# Altium footprint library A6HF-2102-PM.PcbLib: 1 footprints
Each footprint in its own frame and in the unit in brackets; x right, y up, seen from the top. Pads: shape width x height; smd on the part's side, far side on the other; paste and mask are expansions set on the pad; w line width, h text height; cw(c..) or ccw(c..) is an arc to the next point about the centre after c.
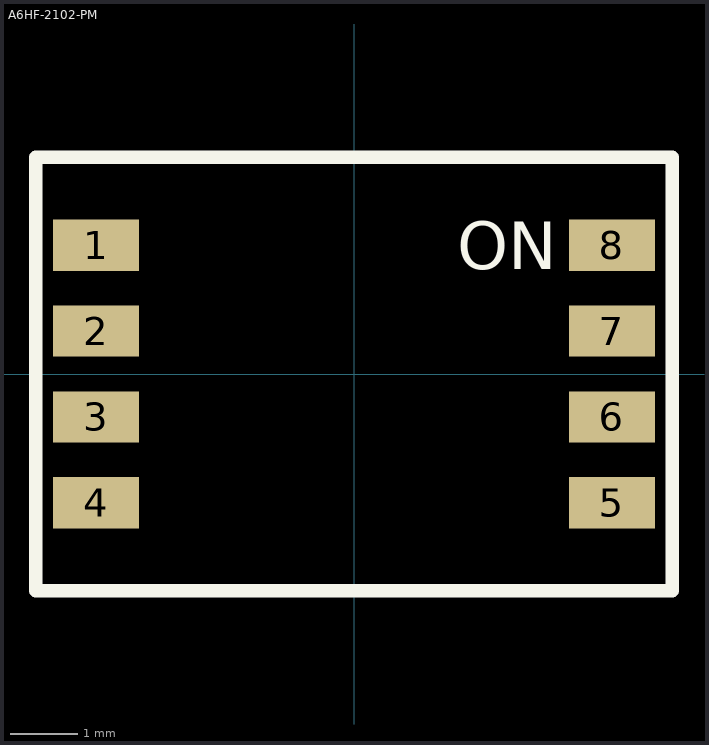
[diagram p0: the footprint, top view; thin cyan lines are the x and y axes]

## A6HF-2102-PM [mm]
height 0.9
pads (8):
  rect 1.27x0.76 smd: 1(-3.81,1.905) 2(-3.81,0.635) 3(-3.81,-0.635) 4(-3.81,-1.905) 5(3.81,-1.905) 6(3.81,-0.635) 7(3.81,0.635) 8(3.81,1.905)
Top Overlay:
  lines w0.2: -4.7,-3.2 -4.7,3.2 4.7,3.2 4.7,-3.2 -4.7,-3.2
  text "ON" at 1.525,1.55 h0.7
Top Assembly:
  lines w0.1: -4.7,-3.2 -4.7,3.2 4.7,3.2 4.7,-3.2 -4.7,-3.2
  text "'.Designator'" at 0,0 h0.7
  text "ON" at 1.525,1.55 h0.7
3D body "A6HF-2102-PM.stp": height 2.2, standoff 0, extent -4.06,-3.105 4.06,3.105